# Altium schematic symbol library Schlib1.SchLib: 2 symbols
Pins are listed as number, name and electrical type; pins without a type are passive.

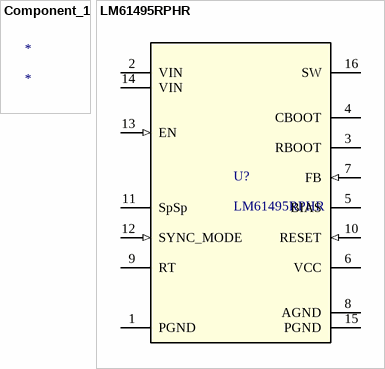
[diagram p0: symbols Component_1 to LM61495RPHR]

## Component_1
designator *

## LM61495RPHR
designator U?
10-A buck converter optimized for power density and low EMI 16-VQFN-HR -40 to 150; Manufacturer_Name: Texas Instruments; TYPE: TYPE; RefDes: RefDes; Copyright: Copyright (C) 2025 Ultra Librarian. All rights reserved.; Manufacturer_Part_Number: LM61495RPHR; Datasheet: https://www.ti.com/lit/gpn/lm61495
footprint RPH0016A
pins: 1 PGND (power), 2 VIN (power), 3 RBOOT, 4 CBOOT, 5 BIAS, 6 VCC (power), 7 FB (in), 8 AGND (power), 9 RT, 10 RESET (in), 11 SpSp, 12 SYNC_MODE (in), 13 EN (in), 14 VIN (power), 15 PGND (power), 16 SW (power)